# Altium footprint library SJ-3523-SMT-TR.PcbLib: 2 footprints
Each footprint in its own frame and in the unit in brackets; x right, y up, seen from the top. Pads: shape width x height; smd on the part's side, far side on the other; paste and mask are expansions set on the pad; w line width, h text height; cw(c..) or ccw(c..) is an arc to the next point about the centre after c.
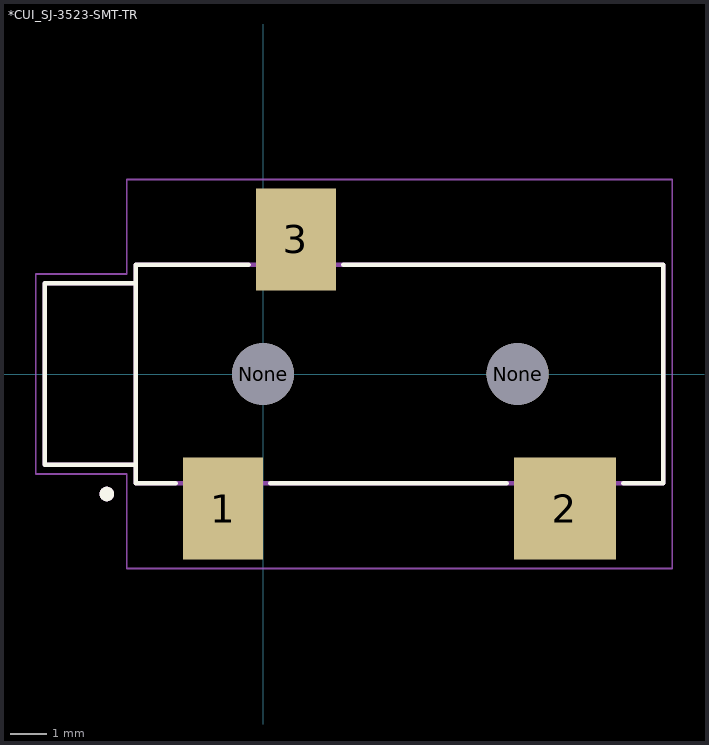
[diagram p0: the footprints below, top view; thin cyan lines are the x and y axes]

## *CUI_SJ-3523-SMT-TR [mm]
pads (5):
  rect 2.2x2.8 smd: 1(-1.1,-3.7) 3(0.9,3.7)
  rect 2.8x2.8 smd: 2(8.3,-3.7)
  round 1.7 hole 1.7 unplated: None(0,0) None(7,0)
Top Overlay:
  circle w0.2: c-4.3,-3.3 r0.1
  lines w0.127: -2.4,-3 -3.5,-3 -3.5,-2.5 ; -0.4,3 -3.5,3 -3.5,2.5 ; 0.2,-3 6.7,-3 ; 2.2,3 11,3 11,-3 9.9,-3 ; -3.5,-2.5 -6,-2.5 -6,2.5 -3.5,2.5 ; -3.5,-2.5 -3.5,2.5
Mechanical 4:
  circle w0.2: c-4.3,-3.3 r0.1
  circle w0.2: c-4.3,-3.3 r0.1
  lines w0.127: -6,-2.5 -3.5,-2.5 -6,-2.5 ; -6,-2.5 -6,2.5 ; -6,-2.5 -6,2.5 ; -6,2.5 -3.5,2.5 -6,2.5 ; -3.5,-3 11,-3 ; -3.5,-3 -3.5,3 ; -3.5,-3 11,-3 ; -3.5,-3 -3.5,3 ; -3.5,3 11,3 ; -3.5,3 11,3 ; 11,-3 11,3 ; 11,-3 11,3
Mechanical 16:
  lines w0.05: -6.25,-2.75 -3.75,-2.75 -3.75,-5.35 11.25,-5.35 11.25,5.35 -3.75,5.35 -3.75,2.75 -6.25,2.75 -6.25,-2.75

## PCBComponent_1 [mm]